# Altium schematic symbol library LM3915N.SchLib: 1 symbol
Pins are listed as number, name and electrical type; pins without a type are passive.

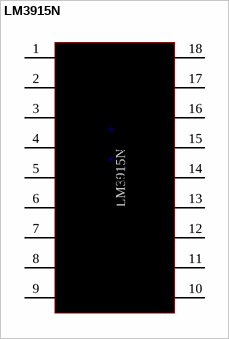
[diagram p0: symbol LM3915N]

## LM3915N
designator *
footprint PCBComponent_1
pins: 1  Led No. 1, 2 V-, 3 V+, 4 Divider L, 5 Signal Input, 6 Divider H, 7 R. Out, 8 R. Adjust, 9 Mode Select, 10 Led No.10, 11 Led No.9, 12 Led No.8, 13 Led No.7, 14 Led No.6, 15 Led No.5, 16 Led No.4, 17 Led No.3, 18 Led No.2